# Altium footprint library WR-TBL_Spring Clamp_10.16mm.PcbLib: 11 footprints
Each footprint in its own frame and in the unit in brackets; x right, y up, seen from the top. Pads: shape width x height; smd on the part's side, far side on the other; paste and mask are expansions set on the pad; w line width, h text height; cw(c..) or ccw(c..) is an arc to the next point about the centre after c.
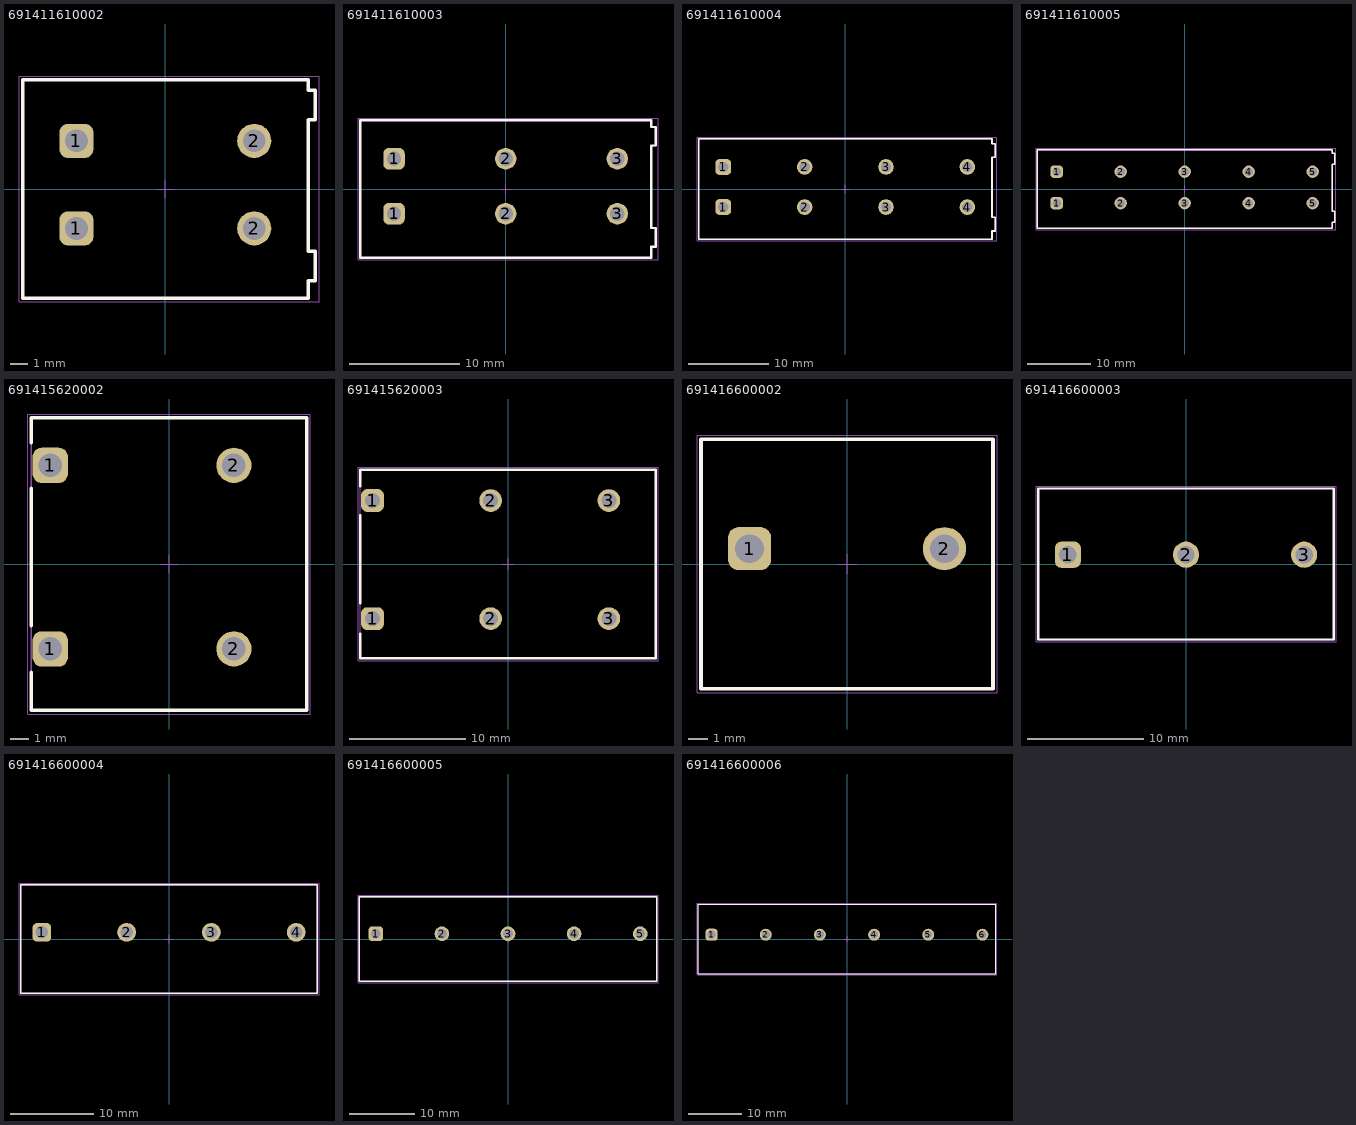
[diagram p0: the footprints below, top view; thin cyan lines are the x and y axes]

## 691411610002 [mm] "10.16mm Horizontal Cable Entry Screwless, 02p"
height 13.9
pads (4):
  rrect50% 1.95x1.95 hole 1.3: 1(-5.08,-2.25) 1(-5.08,2.75)
  round 1.95 hole 1.3: 2(5.08,-2.25) 2(5.08,2.75)
Top Overlay:
  lines w0.2: -8.16,-6.25 8.16,-6.25 8.16,-5.25 8.58,-5.25 8.58,-3.55 8.16,-3.55 8.16,3.95 8.58,3.95 8.58,5.65 8.16,5.65 8.16,6.25 -8.16,6.25 -8.16,-6.25
Top Designator:
  text ".Designator" at -7.498,-0.5 h1.5
Top Component Outline:
  lines w0.1: -8.16,-6.25 -8.16,6.25 8.16,6.25 8.16,5.65 8.58,5.65 8.58,3.95 8.16,3.95 8.16,-3.55 8.58,-3.55 8.58,-5.25 8.16,-5.25 8.16,-6.25 -8.16,-6.25
Top 3D Body:
  lines w0.1: -8.16,-6.25 8.16,-6.25 8.16,-5.25 8.58,-5.25 8.58,-3.55 8.16,-3.55 8.16,3.95 8.58,3.95 8.58,5.65 8.16,5.65 8.16,6.25 -8.16,6.25 -8.16,-6.25
Top Courtyard:
  lines w0.05: -8.36,-6.45 -8.36,6.45 8.78,6.45 8.78,-6.45 -8.36,-6.45
Top Component Center:
  lines w0.05: -0.5,0 0.5,0 ; 0,-0.5 0,0.5
3D body "691411610002.stp": height 14, standoff -3.5, extent -8.16,-6.25 8.579,6.25

## 691411610003 [mm] "10.16mm Horizontal Cable Entry Screwless, 03p"
height 13.9
pads (6):
  rrect50% 1.95x1.95 hole 1.3: 1(-10.16,-2.25) 1(-10.16,2.75)
  round 1.95 hole 1.3: 2(0,-2.25) 2(0,2.75) 3(10.16,-2.25) 3(10.16,2.75)
Top Overlay:
  lines w0.2: -13.24,-6.25 -13.24,6.25 13.24,6.25 13.24,5.65 13.66,5.65 13.66,3.95 13.24,3.95 13.24,-3.55 13.66,-3.55 13.66,-5.25 13.24,-5.25 13.24,-6.25 -13.24,-6.25
Top Designator:
  text ".Designator" at -7.498,-0.5 h1.5
Top Component Outline:
  lines w0.1: -13.24,-6.25 13.24,-6.25 13.24,-5.25 13.66,-5.25 13.66,-3.55 13.24,-3.55 13.24,3.95 13.66,3.95 13.66,5.65 13.24,5.65 13.24,6.25 -13.24,6.25 -13.24,-6.25
Top 3D Body:
  lines w0.1: -13.24,-6.25 -13.24,6.25 13.24,6.25 13.24,5.65 13.66,5.65 13.66,3.95 13.24,3.95 13.24,-3.55 13.66,-3.55 13.66,-5.25 13.24,-5.25 13.24,-6.25 -13.24,-6.25
Top Courtyard:
  lines w0.05: -13.44,-6.45 13.86,-6.45 13.86,6.45 -13.44,6.45 -13.44,-6.45
Top Component Center:
  lines w0.05: -0.5,0 0.5,0 ; 0,-0.5 0,0.5
3D body "691411610003.stp": height 14, standoff -3.5, extent -13.24,-6.25 13.577,6.25

## 691411610004 [mm] "10.16mm Horizontal Cable Entry Screwless, 04p"
height 13.9
pads (8):
  rrect50% 1.95x1.95 hole 1.3: 1(-15.24,-2.25) 1(-15.24,2.75)
  round 1.95 hole 1.3: 2(-5.08,-2.25) 2(-5.08,2.75) 3(5.08,-2.25) 3(5.08,2.75) 4(15.24,-2.25) 4(15.24,2.75)
Top Overlay:
  lines w0.2: -18.32,-6.25 18.32,-6.25 18.32,-5.25 18.74,-5.25 18.74,-3.55 18.32,-3.55 18.32,3.95 18.74,3.95 18.74,5.65 18.32,5.65 18.32,6.25 -18.32,6.25 -18.32,-6.25
Top Designator:
  text ".Designator" at -7.498,-0.5 h1.5
Top Component Outline:
  lines w0.1: -18.32,-6.25 -18.32,6.25 18.32,6.25 18.32,5.65 18.74,5.65 18.74,3.95 18.32,3.95 18.32,-3.55 18.74,-3.55 18.74,-5.25 18.32,-5.25 18.32,-6.25 -18.32,-6.25
Top 3D Body:
  lines w0.1: -18.32,-6.25 18.32,-6.25 18.32,-5.25 18.74,-5.25 18.74,-3.55 18.32,-3.55 18.32,3.95 18.74,3.95 18.74,5.65 18.32,5.65 18.32,6.25 -18.32,6.25 -18.32,-6.25
Top Courtyard:
  lines w0.05: -18.52,-6.45 -18.52,6.45 18.94,6.45 18.94,-6.45 -18.52,-6.45
Top Component Center:
  lines w0.05: -0.5,0 0.5,0 ; 0,-0.5 0,0.5
3D body "691411610004.stp": height 14, standoff -3.5, extent -18.32,-6.25 18.576,6.25

## 691411610005 [mm] "10.16mm Horizontal Cable Entry Screwless, 05p"
height 13.9
pads (10):
  rrect50% 1.95x1.95 hole 1.3: 1(-20.32,-2.25) 1(-20.32,2.75)
  round 1.95 hole 1.3: 2(-10.16,-2.25) 2(-10.16,2.75) 3(0,-2.25) 3(0,2.75) 4(10.16,-2.25) 4(10.16,2.75) 5(20.32,-2.25) 5(20.32,2.75)
Top Overlay:
  lines w0.2: -23.4,-6.25 23.4,-6.25 23.4,-5.25 23.82,-5.25 23.82,-3.55 23.4,-3.55 23.4,3.95 23.82,3.95 23.82,5.65 23.4,5.65 23.4,6.25 -23.4,6.25 -23.4,-6.25
Top Designator:
  text ".Designator" at -7.498,-0.5 h1.5
Top Component Outline:
  lines w0.1: -23.4,-6.25 -23.4,6.25 23.4,6.25 23.4,5.65 23.82,5.65 23.82,3.95 23.4,3.95 23.4,-3.55 23.82,-3.55 23.82,-5.25 23.4,-5.25 23.4,-6.25 -23.4,-6.25
Top 3D Body:
  lines w0.1: -23.4,-6.25 23.4,-6.25 23.4,-5.25 23.82,-5.25 23.82,-3.55 23.4,-3.55 23.4,3.95 23.82,3.95 23.82,5.65 23.4,5.65 23.4,6.25 -23.4,6.25 -23.4,-6.25
Top Courtyard:
  lines w0.05: -23.6,-6.45 -23.6,6.45 24.02,6.45 24.02,-6.45 -23.6,-6.45
Top Component Center:
  lines w0.05: -0.5,0 0.5,0 ; 0,-0.5 0,0.5
3D body "691411610005 (rev1).stp": height 14, standoff -3.5, extent -23.4,-6.25 23.575,6.25

## 691415620002 [mm] "Serie 4156 - 10.16 mm _ 2 pins"
height 13
pads (4):
  rrect50% 1.95x1.95 hole 1.3: 1(-6.57,-4.7) 1(-6.57,5.46)
  round 1.95 hole 1.3: 2(3.59,-4.7) 2(3.59,5.46)
Top Overlay:
  lines w0.2: -7.62,-6 -7.62,-8.1 7.62,-8.1 7.62,8.1 -7.62,8.1 -7.62,6.7 ; -7.62,-3.4 -7.62,4.2
Top Designator:
  text ".Designator" at -7.498,-0.5 h1.5
Top Component Outline:
  lines w0.1: -7.62,-8.1 -7.62,8.1 7.62,8.1 7.62,-8.1 -7.62,-8.1
Top 3D Body:
  lines w0.1: -7.62,-8.1 7.62,-8.1 7.62,8.1 -7.62,8.1 -7.62,-8.1
Top Courtyard:
  lines w0.05: -7.82,-8.3 7.82,-8.3 7.82,8.3 -7.82,8.3 -7.82,-8.3
Top Component Center:
  lines w0.05: -0.5,0 0.5,0 ; 0,-0.5 0,0.5
3D body "691415620002.stp": height 13.05, standoff -3.45, extent -7.62,-8.1 7.62,8.1

## 691415620003 [mm] "Serie 4156 - 10.16 mm _ 3 pins"
height 13
pads (6):
  rrect50% 1.95x1.95 hole 1.3: 1(-11.65,-4.7) 1(-11.65,5.46)
  round 1.95 hole 1.3: 2(-1.49,-4.7) 2(-1.49,5.46) 3(8.67,-4.7) 3(8.67,5.46)
Top Overlay:
  lines w0.2: -12.7,-6 -12.7,-8.1 12.7,-8.1 12.7,8.1 -12.7,8.1 -12.7,6.7 ; -12.7,-3.4 -12.7,4.2
Top Designator:
  text ".Designator" at -7.498,-0.5 h1.5
Top Component Outline:
  lines w0.1: -12.7,-8.1 12.7,-8.1 12.7,8.1 -12.7,8.1 -12.7,-8.1
Top 3D Body:
  lines w0.1: -12.7,-8.1 -12.7,8.1 12.7,8.1 12.7,-8.1 -12.7,-8.1
Top Courtyard:
  lines w0.05: -12.9,-8.3 -12.9,8.3 12.9,8.3 12.9,-8.3 -12.9,-8.3
Top Component Center:
  lines w0.05: -0.5,0 0.5,0 ; 0,-0.5 0,0.5
3D body "691415620003.stp": height 13.05, standoff -3.45, extent -12.7,-8.1 12.7,8.1

## 691416600002 [mm] "Serie 4166 - 10.16 mm _ 2 pins"
height 12.5
pads (2):
  rrect50% 2.25x2.25 hole 1.5: 1(-5.08,0.8)
  round 2.25 hole 1.5: 2(5.08,0.8)
Top Overlay:
  lines w0.2: -7.62,-6.5 -7.62,6.5 7.62,6.5 7.62,-6.5 -7.62,-6.5
Top Designator:
  text ".Designator" at -7.498,-0.5 h1.5
Top Component Outline:
  lines w0.1: -7.62,-6.5 7.62,-6.5 7.62,6.5 -7.62,6.5 -7.62,-6.5
Top 3D Body:
  lines w0.1: -7.62,-6.5 -7.62,6.5 7.62,6.5 7.62,-6.5 -7.62,-6.5
Top Courtyard:
  lines w0.05: -7.82,-6.7 -7.82,6.7 7.82,6.7 7.82,-6.7 -7.82,-6.7
Top Component Center:
  lines w0.05: -0.5,0 0.5,0 ; 0,-0.5 0,0.5
3D body "691416600002.stp": height 12.55, standoff -4.95, extent -7.62,-6.5 7.62,6.5

## 691416600003 [mm] "Serie 4166 - 10.16 mm _ 3 pins"
height 12.5
pads (3):
  rrect50% 2.25x2.25 hole 1.5: 1(-10.16,0.8)
  round 2.25 hole 1.5: 2(0,0.8) 3(10.16,0.8)
Top Overlay:
  lines w0.2: -12.7,-6.5 -12.7,6.5 12.7,6.5 12.7,-6.5 -12.7,-6.5
Top Designator:
  text ".Designator" at -7.498,-0.5 h1.5
Top Component Outline:
  lines w0.1: -12.7,-6.5 12.7,-6.5 12.7,6.5 -12.7,6.5 -12.7,-6.5
Top 3D Body:
  lines w0.1: -12.7,-6.5 -12.7,6.5 12.7,6.5 12.7,-6.5 -12.7,-6.5
Top Courtyard:
  lines w0.05: -12.9,-6.7 -12.9,6.7 12.9,6.7 12.9,-6.7 -12.9,-6.7
Top Component Center:
  lines w0.05: -0.5,0 0.5,0 ; 0,-0.5 0,0.5
3D body "691416600003.stp": height 12.55, standoff -4.95, extent -12.7,-6.5 12.7,6.5

## 691416600004 [mm] "Serie 4166 - 10.16 mm _ 4 pins"
height 12.5
pads (4):
  rrect50% 2.25x2.25 hole 1.5: 1(-15.24,0.8)
  round 2.25 hole 1.5: 2(-5.08,0.8) 3(5.08,0.8) 4(15.24,0.8)
Top Overlay:
  lines w0.2: -17.78,-6.5 17.78,-6.5 17.78,6.5 -17.78,6.5 -17.78,-6.5
Top Designator:
  text ".Designator" at -7.498,-0.5 h1.5
Top Component Outline:
  lines w0.1: -17.78,-6.5 -17.78,6.5 17.78,6.5 17.78,-6.5 -17.78,-6.5
Top 3D Body:
  lines w0.1: -17.78,-6.5 17.78,-6.5 17.78,6.5 -17.78,6.5 -17.78,-6.5
Top Courtyard:
  lines w0.05: -17.98,-6.7 17.98,-6.7 17.98,6.7 -17.98,6.7 -17.98,-6.7
Top Component Center:
  lines w0.05: -0.5,0 0.5,0 ; 0,-0.5 0,0.5
3D body "691416600004.stp": height 12.55, standoff -4.95, extent -17.78,-6.5 17.78,6.5

## 691416600005 [mm] "Serie 4166 - 10.16 mm _ 5 pins"
height 12.5
pads (5):
  rrect50% 2.25x2.25 hole 1.5: 1(-20.32,0.8)
  round 2.25 hole 1.5: 2(-10.16,0.8) 3(0,0.8) 4(10.16,0.8) 5(20.32,0.8)
Top Overlay:
  lines w0.2: -22.86,-6.5 -22.86,6.5 22.86,6.5 22.86,-6.5 -22.86,-6.5
Top Designator:
  text ".Designator" at -7.498,-0.5 h1.5
Top Component Outline:
  lines w0.1: -22.86,-6.5 22.86,-6.5 22.86,6.5 -22.86,6.5 -22.86,-6.5
Top 3D Body:
  lines w0.1: -22.86,-6.5 -22.86,6.5 22.86,6.5 22.86,-6.5 -22.86,-6.5
Top Courtyard:
  lines w0.05: -23.06,-6.7 -23.06,6.7 23.06,6.7 23.06,-6.7 -23.06,-6.7
Top Component Center:
  lines w0.05: -0.5,0 0.5,0 ; 0,-0.5 0,0.5
3D body "691416600005.stp": height 12.55, standoff -4.95, extent -22.86,-6.5 22.86,6.5

## 691416600006 [mm] "Serie 4166 - 10.16 mm _ 6 pins"
height 12.5
pads (6):
  rrect50% 2.25x2.25 hole 1.5: 1(-25.4,0.8)
  round 2.25 hole 1.5: 2(-15.24,0.8) 3(-5.08,0.8) 4(5.08,0.8) 5(15.24,0.8) 6(25.4,0.8)
Top Overlay:
  lines w0.2: -27.94,-6.5 -27.94,6.5 27.94,6.5 27.94,-6.5 -27.94,-6.5
Top Designator:
  text ".Designator" at -7.498,-0.5 h1.5
Top Component Outline:
  lines w0.1: -27.94,-6.5 27.94,-6.5 27.94,6.5 -27.94,6.5 -27.94,-6.5
Top 3D Body:
  lines w0.1: -27.94,-6.5 -27.94,6.5 27.94,6.5 27.94,-6.5 -27.94,-6.5
Top Courtyard:
  lines w0.05: -28.14,-6.7 -28.14,6.7 28.14,6.7 28.14,-6.7 -28.14,-6.7
Top Component Center:
  lines w0.05: -0.5,0 0.5,0 ; 0,-0.5 0,0.5
3D body "691416600006.stp": height 12.55, standoff -4.95, extent -27.94,-6.5 27.94,6.5